# Altium footprint library Hitachi Semiconductor Footprints.PcbLib: 16 footprints
Each footprint in its own frame and in the unit in brackets; x right, y up, seen from the top. Pads: shape width x height; smd on the part's side, far side on the other; paste and mask are expansions set on the pad; w line width, h text height; cw(c..) or ccw(c..) is an arc to the next point about the centre after c.
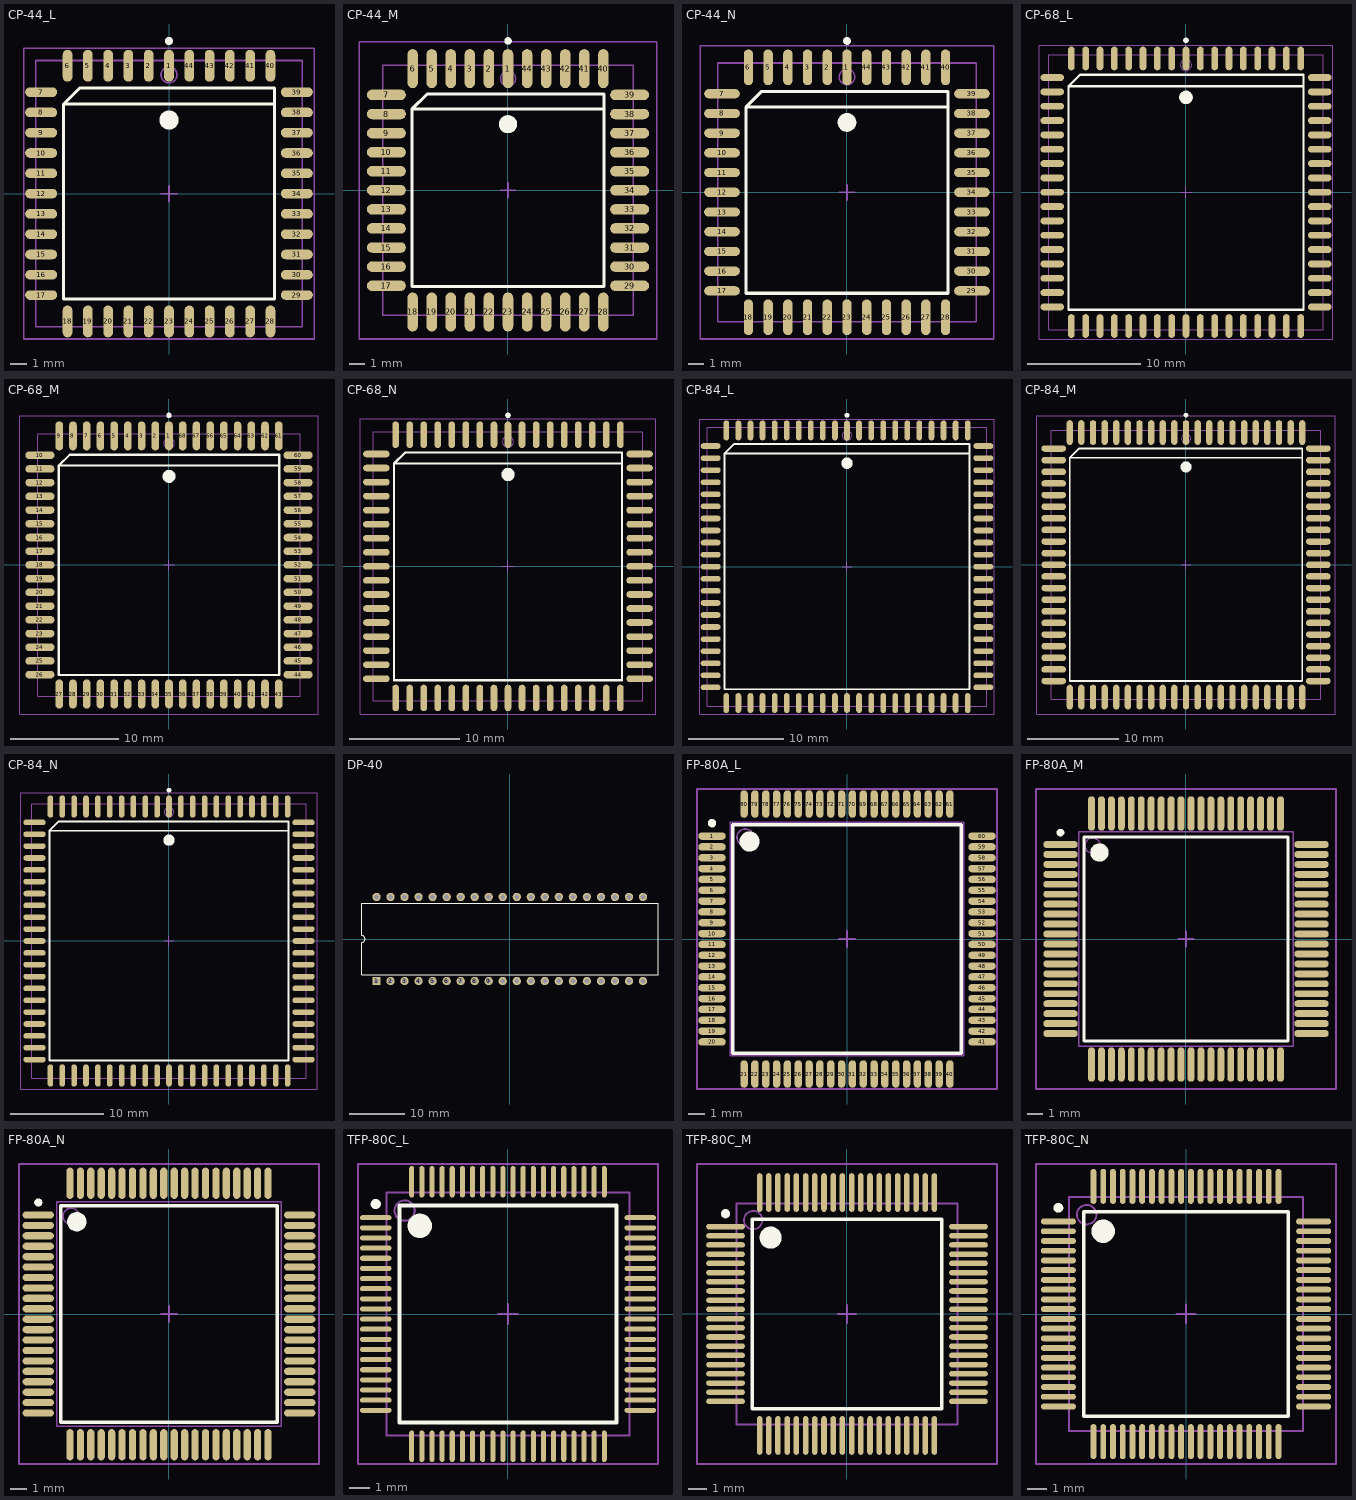
[diagram p0: the footprints below, top view; thin cyan lines are the x and y axes]

## CP-44_L [mm] "44-Pin Leaded Chip Carrier 1.27 mm Pitch, IPC High Density"
height 4.6
pads (44):
  oval 0.6x2 smd: 1(0,8) 2(-1.27,8) 3(-2.54,8) 4(-3.81,8) 5(-5.08,8) 6(-6.35,8) 18(-6.35,-8) 19(-5.08,-8) 20(-3.81,-8) 21(-2.54,-8) 22(-1.27,-8) 23(0,-8) 24(1.27,-8) 25(2.54,-8) 26(3.81,-8) 27(5.08,-8) 28(6.35,-8) 40(6.35,8) 41(5.08,8) 42(3.81,8) 43(2.54,8) 44(1.27,8)
  oval 2x0.6 smd: 7(-8,6.35) 8(-8,5.08) 9(-8,3.81) 10(-8,2.54) 11(-8,1.27) 12(-8,0) 13(-8,-1.27) 14(-8,-2.54) 15(-8,-3.81) 16(-8,-5.08) 17(-8,-6.35) 29(8,-6.35) 30(8,-5.08) 31(8,-3.81) 32(8,-2.54) 33(8,-1.27) 34(8,0) 35(8,1.27) 36(8,2.54) 37(8,3.81) 38(8,5.08) 39(8,6.35)
Top Overlay:
  circle w0.25: c0,9.55 r0.125
  circle w0.6: c0,4.6 r0.3
  lines w0.2: 6.6,5.6 -6.6,5.6 ; -6.6,5.6 -5.6,6.6 6.6,6.6 6.6,-6.6 -6.6,-6.6 -6.6,5.6
Mechanical 13:
  circle w0.1: c0,7.43 r0.5
  lines w0.1: -8.33,-8.33 -8.33,8.33 8.33,8.33 8.33,-8.33 -8.33,-8.33
Mechanical 15:
  lines w0.1: -0.5,0 0.5,0 ; 0,-0.5 0,0.5 ; -9.1,-9.1 -9.1,9.1 9.1,9.1 9.1,-9.1 -9.1,-9.1
3D body: height 4.6, standoff 0, extent -8.33,-8.33 8.33,8.33

## CP-44_M [mm] "44-Pin Leaded Chip Carrier 1.27 mm Pitch, IPC Low Density"
height 4.6
pads (44):
  oval 0.7x2.6 smd: 1(0,8.1) 2(-1.27,8.1) 3(-2.54,8.1) 4(-3.81,8.1) 5(-5.08,8.1) 6(-6.35,8.1) 18(-6.35,-8.1) 19(-5.08,-8.1) 20(-3.81,-8.1) 21(-2.54,-8.1) 22(-1.27,-8.1) 23(0,-8.1) 24(1.27,-8.1) 25(2.54,-8.1) 26(3.81,-8.1) 27(5.08,-8.1) 28(6.35,-8.1) 40(6.35,8.1) 41(5.08,8.1) 42(3.81,8.1) 43(2.54,8.1) 44(1.27,8.1)
  oval 2.6x0.7 smd: 7(-8.1,6.35) 8(-8.1,5.08) 9(-8.1,3.81) 10(-8.1,2.54) 11(-8.1,1.27) 12(-8.1,0) 13(-8.1,-1.27) 14(-8.1,-2.54) 15(-8.1,-3.81) 16(-8.1,-5.08) 17(-8.1,-6.35) 29(8.1,-6.35) 30(8.1,-5.08) 31(8.1,-3.81) 32(8.1,-2.54) 33(8.1,-1.27) 34(8.1,0) 35(8.1,1.27) 36(8.1,2.54) 37(8.1,3.81) 38(8.1,5.08) 39(8.1,6.35)
Top Overlay:
  circle w0.25: c0,9.95 r0.125
  circle w0.6: c0,4.4 r0.3
  lines w0.2: 6.4,5.4 -6.4,5.4 ; -6.4,5.4 -5.4,6.4 6.4,6.4 6.4,-6.4 -6.4,-6.4 -6.4,5.4
Mechanical 13:
  circle w0.1: c0,7.43 r0.5
  lines w0.1: -8.33,-8.33 -8.33,8.33 8.33,8.33 8.33,-8.33 -8.33,-8.33
Mechanical 15:
  lines w0.1: -0.5,0 0.5,0 ; 0,-0.5 0,0.5 ; -9.9,-9.9 -9.9,9.9 9.9,9.9 9.9,-9.9 -9.9,-9.9
3D body: height 4.6, standoff 0, extent -8.33,-8.33 8.33,8.33

## CP-44_N [mm] "44-Pin Leaded Chip Carrier 1.27 mm Pitch, IPC Medium Density"
height 4.6
pads (44):
  oval 0.6x2.3 smd: 1(0,8.05) 2(-1.27,8.05) 3(-2.54,8.05) 4(-3.81,8.05) 5(-5.08,8.05) 6(-6.35,8.05) 18(-6.35,-8.05) 19(-5.08,-8.05) 20(-3.81,-8.05) 21(-2.54,-8.05) 22(-1.27,-8.05) 23(0,-8.05) 24(1.27,-8.05) 25(2.54,-8.05) 26(3.81,-8.05) 27(5.08,-8.05) 28(6.35,-8.05) 40(6.35,8.05) 41(5.08,8.05) 42(3.81,8.05) 43(2.54,8.05) 44(1.27,8.05)
  oval 2.3x0.6 smd: 7(-8.05,6.35) 8(-8.05,5.08) 9(-8.05,3.81) 10(-8.05,2.54) 11(-8.05,1.27) 12(-8.05,0) 13(-8.05,-1.27) 14(-8.05,-2.54) 15(-8.05,-3.81) 16(-8.05,-5.08) 17(-8.05,-6.35) 29(8.05,-6.35) 30(8.05,-5.08) 31(8.05,-3.81) 32(8.05,-2.54) 33(8.05,-1.27) 34(8.05,0) 35(8.05,1.27) 36(8.05,2.54) 37(8.05,3.81) 38(8.05,5.08) 39(8.05,6.35)
Top Overlay:
  circle w0.25: c0,9.75 r0.125
  circle w0.6: c0,4.5 r0.3
  lines w0.2: 6.5,5.5 -6.5,5.5 ; -6.5,5.5 -5.5,6.5 6.5,6.5 6.5,-6.5 -6.5,-6.5 -6.5,5.5
Mechanical 13:
  circle w0.1: c0,7.43 r0.5
  lines w0.1: -8.33,-8.33 -8.33,8.33 8.33,8.33 8.33,-8.33 -8.33,-8.33
Mechanical 15:
  lines w0.1: -0.5,0 0.5,0 ; 0,-0.5 0,0.5 ; -9.45,-9.45 -9.45,9.45 9.45,9.45 9.45,-9.45 -9.45,-9.45
3D body: height 4.6, standoff 0, extent -8.33,-8.33 8.33,8.33

## CP-68_L [mm] "68-Pin Leaded Chip Carrier 1.27 mm Pitch, IPC High Density"
height 4.6
pads (68):
  oval 0.6x2.1 smd: 1(0,11.85) 2(-1.27,11.85) 3(-2.54,11.85) 4(-3.81,11.85) 5(-5.08,11.85) 6(-6.35,11.85) 7(-7.62,11.85) 8(-8.89,11.85) 9(-10.16,11.85) 27(-10.16,-11.85) 28(-8.89,-11.85) 29(-7.62,-11.85) 30(-6.35,-11.85) 31(-5.08,-11.85) 32(-3.81,-11.85) 33(-2.54,-11.85) 34(-1.27,-11.85) 35(0,-11.85) 36(1.27,-11.85) 37(2.54,-11.85) 38(3.81,-11.85) 39(5.08,-11.85) 40(6.35,-11.85) 41(7.62,-11.85) 42(8.89,-11.85) 43(10.16,-11.85) 61(10.16,11.85) 62(8.89,11.85) 63(7.62,11.85) 64(6.35,11.85) 65(5.08,11.85) 66(3.81,11.85) 67(2.54,11.85) 68(1.27,11.85)
  oval 2.1x0.6 smd: 10(-11.85,10.16) 11(-11.85,8.89) 12(-11.85,7.62) 13(-11.85,6.35) 14(-11.85,5.08) 15(-11.85,3.81) 16(-11.85,2.54) 17(-11.85,1.27) 18(-11.85,0) 19(-11.85,-1.27) 20(-11.85,-2.54) 21(-11.85,-3.81) 22(-11.85,-5.08) 23(-11.85,-6.35) 24(-11.85,-7.62) 25(-11.85,-8.89) 26(-11.85,-10.16) 44(11.85,-10.16) 45(11.85,-8.89) 46(11.85,-7.62) 47(11.85,-6.35) 48(11.85,-5.08) 49(11.85,-3.81) 50(11.85,-2.54) 51(11.85,-1.27) 52(11.85,0) 53(11.85,1.27) 54(11.85,2.54) 55(11.85,3.81) 56(11.85,5.08) 57(11.85,6.35) 58(11.85,7.62) 59(11.85,8.89) 60(11.85,10.16)
Top Overlay:
  circle w0.25: c0,13.45 r0.125
  circle w0.6: c0,8.4 r0.3
  lines w0.2: 10.4,9.4 -10.4,9.4 ; -10.4,9.4 -9.4,10.4 10.4,10.4 10.4,-10.4 -10.4,-10.4 -10.4,9.4
Mechanical 13:
  circle w0.1: c0,11.265 r0.5
  lines w0.1: -12.165,-12.165 -12.165,12.165 12.165,12.165 12.165,-12.165 -12.165,-12.165
Mechanical 15:
  lines w0.1: -0.5,0 0.5,0 ; 0,-0.5 0,0.5 ; -13,-13 -13,13 13,13 13,-13 -13,-13
3D body: height 4.6, standoff 0, extent -12.165,-12.165 12.165,12.165

## CP-68_M [mm] "68-Pin Leaded Chip Carrier 1.27 mm Pitch, IPC Low Density"
height 4.6
pads (68):
  oval 0.7x2.7 smd: 1(0,11.95) 2(-1.27,11.95) 3(-2.54,11.95) 4(-3.81,11.95) 5(-5.08,11.95) 6(-6.35,11.95) 7(-7.62,11.95) 8(-8.89,11.95) 9(-10.16,11.95) 27(-10.16,-11.95) 28(-8.89,-11.95) 29(-7.62,-11.95) 30(-6.35,-11.95) 31(-5.08,-11.95) 32(-3.81,-11.95) 33(-2.54,-11.95) 34(-1.27,-11.95) 35(0,-11.95) 36(1.27,-11.95) 37(2.54,-11.95) 38(3.81,-11.95) 39(5.08,-11.95) 40(6.35,-11.95) 41(7.62,-11.95) 42(8.89,-11.95) 43(10.16,-11.95) 61(10.16,11.95) 62(8.89,11.95) 63(7.62,11.95) 64(6.35,11.95) 65(5.08,11.95) 66(3.81,11.95) 67(2.54,11.95) 68(1.27,11.95)
  oval 2.7x0.7 smd: 10(-11.95,10.16) 11(-11.95,8.89) 12(-11.95,7.62) 13(-11.95,6.35) 14(-11.95,5.08) 15(-11.95,3.81) 16(-11.95,2.54) 17(-11.95,1.27) 18(-11.95,0) 19(-11.95,-1.27) 20(-11.95,-2.54) 21(-11.95,-3.81) 22(-11.95,-5.08) 23(-11.95,-6.35) 24(-11.95,-7.62) 25(-11.95,-8.89) 26(-11.95,-10.16) 44(11.95,-10.16) 45(11.95,-8.89) 46(11.95,-7.62) 47(11.95,-6.35) 48(11.95,-5.08) 49(11.95,-3.81) 50(11.95,-2.54) 51(11.95,-1.27) 52(11.95,0) 53(11.95,1.27) 54(11.95,2.54) 55(11.95,3.81) 56(11.95,5.08) 57(11.95,6.35) 58(11.95,7.62) 59(11.95,8.89) 60(11.95,10.16)
Top Overlay:
  circle w0.25: c0,13.85 r0.125
  circle w0.6: c0,8.2 r0.3
  lines w0.2: 10.2,9.2 -10.2,9.2 ; -10.2,9.2 -9.2,10.2 10.2,10.2 10.2,-10.2 -10.2,-10.2 -10.2,9.2
Mechanical 13:
  circle w0.1: c0,11.265 r0.5
  lines w0.1: -12.165,-12.165 -12.165,12.165 12.165,12.165 12.165,-12.165 -12.165,-12.165
Mechanical 15:
  lines w0.1: -0.5,0 0.5,0 ; 0,-0.5 0,0.5 ; -13.8,-13.8 -13.8,13.8 13.8,13.8 13.8,-13.8 -13.8,-13.8
3D body: height 4.6, standoff 0, extent -12.165,-12.165 12.165,12.165

## CP-68_N [mm] "68-Pin Leaded Chip Carrier 1.27 mm Pitch, IPC Medium Density"
height 4.6
pads (68):
  oval 0.6x2.4 smd: 1(0,11.9) 2(-1.27,11.9) 3(-2.54,11.9) 4(-3.81,11.9) 5(-5.08,11.9) 6(-6.35,11.9) 7(-7.62,11.9) 8(-8.89,11.9) 9(-10.16,11.9) 27(-10.16,-11.9) 28(-8.89,-11.9) 29(-7.62,-11.9) 30(-6.35,-11.9) 31(-5.08,-11.9) 32(-3.81,-11.9) 33(-2.54,-11.9) 34(-1.27,-11.9) 35(0,-11.9) 36(1.27,-11.9) 37(2.54,-11.9) 38(3.81,-11.9) 39(5.08,-11.9) 40(6.35,-11.9) 41(7.62,-11.9) 42(8.89,-11.9) 43(10.16,-11.9) 61(10.16,11.9) 62(8.89,11.9) 63(7.62,11.9) 64(6.35,11.9) 65(5.08,11.9) 66(3.81,11.9) 67(2.54,11.9) 68(1.27,11.9)
  oval 2.4x0.6 smd: 10(-11.9,10.16) 11(-11.9,8.89) 12(-11.9,7.62) 13(-11.9,6.35) 14(-11.9,5.08) 15(-11.9,3.81) 16(-11.9,2.54) 17(-11.9,1.27) 18(-11.9,0) 19(-11.9,-1.27) 20(-11.9,-2.54) 21(-11.9,-3.81) 22(-11.9,-5.08) 23(-11.9,-6.35) 24(-11.9,-7.62) 25(-11.9,-8.89) 26(-11.9,-10.16) 44(11.9,-10.16) 45(11.9,-8.89) 46(11.9,-7.62) 47(11.9,-6.35) 48(11.9,-5.08) 49(11.9,-3.81) 50(11.9,-2.54) 51(11.9,-1.27) 52(11.9,0) 53(11.9,1.27) 54(11.9,2.54) 55(11.9,3.81) 56(11.9,5.08) 57(11.9,6.35) 58(11.9,7.62) 59(11.9,8.89) 60(11.9,10.16)
Top Overlay:
  circle w0.25: c0,13.65 r0.125
  circle w0.6: c0,8.3 r0.3
  lines w0.2: 10.3,9.3 -10.3,9.3 ; -10.3,9.3 -9.3,10.3 10.3,10.3 10.3,-10.3 -10.3,-10.3 -10.3,9.3
Mechanical 13:
  circle w0.1: c0,11.265 r0.5
  lines w0.1: -12.165,-12.165 -12.165,12.165 12.165,12.165 12.165,-12.165 -12.165,-12.165
Mechanical 15:
  lines w0.1: -0.5,0 0.5,0 ; 0,-0.5 0,0.5 ; -13.35,-13.35 -13.35,13.35 13.35,13.35 13.35,-13.35 -13.35,-13.35
3D body: height 4.6, standoff 0, extent -12.165,-12.165 12.165,12.165

## CP-84_L [mm] "84-Pin Leaded Chip Carrier 1.27 mm Pitch, IPC High Density"
height 4.6
pads (84):
  oval 0.6x2.1 smd: 1(0,14.35) 2(-1.27,14.35) 3(-2.54,14.35) 4(-3.81,14.35) 5(-5.08,14.35) 6(-6.35,14.35) 7(-7.62,14.35) 8(-8.89,14.35) 9(-10.16,14.35) 10(-11.43,14.35) 11(-12.7,14.35) 33(-12.7,-14.35) 34(-11.43,-14.35) 35(-10.16,-14.35) 36(-8.89,-14.35) 37(-7.62,-14.35) 38(-6.35,-14.35) 39(-5.08,-14.35) 40(-3.81,-14.35) 41(-2.54,-14.35) 42(-1.27,-14.35) 43(0,-14.35) 44(1.27,-14.35) 45(2.54,-14.35) 46(3.81,-14.35) 47(5.08,-14.35) 48(6.35,-14.35) 49(7.62,-14.35) 50(8.89,-14.35) 51(10.16,-14.35) 52(11.43,-14.35) 53(12.7,-14.35) 75(12.7,14.35) 76(11.43,14.35) 77(10.16,14.35) 78(8.89,14.35) 79(7.62,14.35) 80(6.35,14.35) 81(5.08,14.35) 82(3.81,14.35) 83(2.54,14.35) 84(1.27,14.35)
  oval 2.1x0.6 smd: 12(-14.35,12.7) 13(-14.35,11.43) 14(-14.35,10.16) 15(-14.35,8.89) 16(-14.35,7.62) 17(-14.35,6.35) 18(-14.35,5.08) 19(-14.35,3.81) 20(-14.35,2.54) 21(-14.35,1.27) 22(-14.35,0) 23(-14.35,-1.27) 24(-14.35,-2.54) 25(-14.35,-3.81) 26(-14.35,-5.08) 27(-14.35,-6.35) 28(-14.35,-7.62) 29(-14.35,-8.89) 30(-14.35,-10.16) 31(-14.35,-11.43) 32(-14.35,-12.7) 54(14.35,-12.7) 55(14.35,-11.43) 56(14.35,-10.16) 57(14.35,-8.89) 58(14.35,-7.62) 59(14.35,-6.35) 60(14.35,-5.08) 61(14.35,-3.81) 62(14.35,-2.54) 63(14.35,-1.27) 64(14.35,0) 65(14.35,1.27) 66(14.35,2.54) 67(14.35,3.81) 68(14.35,5.08) 69(14.35,6.35) 70(14.35,7.62) 71(14.35,8.89) 72(14.35,10.16) 73(14.35,11.43) 74(14.35,12.7)
Top Overlay:
  circle w0.25: c0,15.95 r0.125
  circle w0.6: c0,10.9 r0.3
  lines w0.2: 12.9,11.9 -12.9,11.9 ; -12.9,11.9 -11.9,12.9 12.9,12.9 12.9,-12.9 -12.9,-12.9 -12.9,11.9
Mechanical 13:
  circle w0.1: c0,13.805 r0.5
  lines w0.1: -14.705,-14.705 -14.705,14.705 14.705,14.705 14.705,-14.705 -14.705,-14.705
Mechanical 15:
  lines w0.1: -0.5,0 0.5,0 ; 0,-0.5 0,0.5 ; -15.5,-15.5 -15.5,15.5 15.5,15.5 15.5,-15.5 -15.5,-15.5
3D body: height 4.6, standoff 0, extent -14.705,-14.705 14.705,14.705

## CP-84_M [mm] "84-Pin Leaded Chip Carrier 1.27 mm Pitch, IPC Low Density"
height 4.6
pads (84):
  oval 0.7x2.7 smd: 1(0,14.45) 2(-1.27,14.45) 3(-2.54,14.45) 4(-3.81,14.45) 5(-5.08,14.45) 6(-6.35,14.45) 7(-7.62,14.45) 8(-8.89,14.45) 9(-10.16,14.45) 10(-11.43,14.45) 11(-12.7,14.45) 33(-12.7,-14.45) 34(-11.43,-14.45) 35(-10.16,-14.45) 36(-8.89,-14.45) 37(-7.62,-14.45) 38(-6.35,-14.45) 39(-5.08,-14.45) 40(-3.81,-14.45) 41(-2.54,-14.45) 42(-1.27,-14.45) 43(0,-14.45) 44(1.27,-14.45) 45(2.54,-14.45) 46(3.81,-14.45) 47(5.08,-14.45) 48(6.35,-14.45) 49(7.62,-14.45) 50(8.89,-14.45) 51(10.16,-14.45) 52(11.43,-14.45) 53(12.7,-14.45) 75(12.7,14.45) 76(11.43,14.45) 77(10.16,14.45) 78(8.89,14.45) 79(7.62,14.45) 80(6.35,14.45) 81(5.08,14.45) 82(3.81,14.45) 83(2.54,14.45) 84(1.27,14.45)
  oval 2.7x0.7 smd: 12(-14.45,12.7) 13(-14.45,11.43) 14(-14.45,10.16) 15(-14.45,8.89) 16(-14.45,7.62) 17(-14.45,6.35) 18(-14.45,5.08) 19(-14.45,3.81) 20(-14.45,2.54) 21(-14.45,1.27) 22(-14.45,0) 23(-14.45,-1.27) 24(-14.45,-2.54) 25(-14.45,-3.81) 26(-14.45,-5.08) 27(-14.45,-6.35) 28(-14.45,-7.62) 29(-14.45,-8.89) 30(-14.45,-10.16) 31(-14.45,-11.43) 32(-14.45,-12.7) 54(14.45,-12.7) 55(14.45,-11.43) 56(14.45,-10.16) 57(14.45,-8.89) 58(14.45,-7.62) 59(14.45,-6.35) 60(14.45,-5.08) 61(14.45,-3.81) 62(14.45,-2.54) 63(14.45,-1.27) 64(14.45,0) 65(14.45,1.27) 66(14.45,2.54) 67(14.45,3.81) 68(14.45,5.08) 69(14.45,6.35) 70(14.45,7.62) 71(14.45,8.89) 72(14.45,10.16) 73(14.45,11.43) 74(14.45,12.7)
Top Overlay:
  circle w0.25: c0,16.35 r0.125
  circle w0.6: c0,10.7 r0.3
  lines w0.2: 12.7,11.7 -12.7,11.7 ; -12.7,11.7 -11.7,12.7 12.7,12.7 12.7,-12.7 -12.7,-12.7 -12.7,11.7
Mechanical 13:
  circle w0.1: c0,13.805 r0.5
  lines w0.1: -14.705,-14.705 -14.705,14.705 14.705,14.705 14.705,-14.705 -14.705,-14.705
Mechanical 15:
  lines w0.1: -0.5,0 0.5,0 ; 0,-0.5 0,0.5 ; -16.3,-16.3 -16.3,16.3 16.3,16.3 16.3,-16.3 -16.3,-16.3
3D body: height 4.6, standoff 0, extent -14.705,-14.705 14.705,14.705

## CP-84_N [mm] "84-Pin Leaded Chip Carrier 1.27 mm Pitch, IPC Medium Density"
height 4.6
pads (84):
  oval 0.6x2.4 smd: 1(0,14.4) 2(-1.27,14.4) 3(-2.54,14.4) 4(-3.81,14.4) 5(-5.08,14.4) 6(-6.35,14.4) 7(-7.62,14.4) 8(-8.89,14.4) 9(-10.16,14.4) 10(-11.43,14.4) 11(-12.7,14.4) 33(-12.7,-14.4) 34(-11.43,-14.4) 35(-10.16,-14.4) 36(-8.89,-14.4) 37(-7.62,-14.4) 38(-6.35,-14.4) 39(-5.08,-14.4) 40(-3.81,-14.4) 41(-2.54,-14.4) 42(-1.27,-14.4) 43(0,-14.4) 44(1.27,-14.4) 45(2.54,-14.4) 46(3.81,-14.4) 47(5.08,-14.4) 48(6.35,-14.4) 49(7.62,-14.4) 50(8.89,-14.4) 51(10.16,-14.4) 52(11.43,-14.4) 53(12.7,-14.4) 75(12.7,14.4) 76(11.43,14.4) 77(10.16,14.4) 78(8.89,14.4) 79(7.62,14.4) 80(6.35,14.4) 81(5.08,14.4) 82(3.81,14.4) 83(2.54,14.4) 84(1.27,14.4)
  oval 2.4x0.6 smd: 12(-14.4,12.7) 13(-14.4,11.43) 14(-14.4,10.16) 15(-14.4,8.89) 16(-14.4,7.62) 17(-14.4,6.35) 18(-14.4,5.08) 19(-14.4,3.81) 20(-14.4,2.54) 21(-14.4,1.27) 22(-14.4,0) 23(-14.4,-1.27) 24(-14.4,-2.54) 25(-14.4,-3.81) 26(-14.4,-5.08) 27(-14.4,-6.35) 28(-14.4,-7.62) 29(-14.4,-8.89) 30(-14.4,-10.16) 31(-14.4,-11.43) 32(-14.4,-12.7) 54(14.4,-12.7) 55(14.4,-11.43) 56(14.4,-10.16) 57(14.4,-8.89) 58(14.4,-7.62) 59(14.4,-6.35) 60(14.4,-5.08) 61(14.4,-3.81) 62(14.4,-2.54) 63(14.4,-1.27) 64(14.4,0) 65(14.4,1.27) 66(14.4,2.54) 67(14.4,3.81) 68(14.4,5.08) 69(14.4,6.35) 70(14.4,7.62) 71(14.4,8.89) 72(14.4,10.16) 73(14.4,11.43) 74(14.4,12.7)
Top Overlay:
  circle w0.25: c0,16.15 r0.125
  circle w0.6: c0,10.8 r0.3
  lines w0.2: 12.8,11.8 -12.8,11.8 ; -12.8,11.8 -11.8,12.8 12.8,12.8 12.8,-12.8 -12.8,-12.8 -12.8,11.8
Mechanical 13:
  circle w0.1: c0,13.805 r0.5
  lines w0.1: -14.705,-14.705 -14.705,14.705 14.705,14.705 14.705,-14.705 -14.705,-14.705
Mechanical 15:
  lines w0.1: -0.5,0 0.5,0 ; 0,-0.5 0,0.5 ; -15.85,-15.85 -15.85,15.85 15.85,15.85 15.85,-15.85 -15.85,-15.85
3D body: height 4.6, standoff 0, extent -14.705,-14.705 14.705,14.705

## DP-40 [mm] "DIP; 40 Leads; Row Spacing 15.24 mm; Pitch 2.54 mm"
height 5.08
pads (40):
  rect 1.5x1.5 hole 0.9: 1(-24.13,-7.62)
  round 1.5 hole 0.9: 2(-21.59,-7.62) 3(-19.05,-7.62) 4(-16.51,-7.62) 5(-13.97,-7.62) 6(-11.43,-7.62) 7(-8.89,-7.62) 8(-6.35,-7.62) 9(-3.81,-7.62) 10(-1.27,-7.62) 11(1.27,-7.62) 12(3.81,-7.62) 13(6.35,-7.62) 14(8.89,-7.62) 15(11.43,-7.62) 16(13.97,-7.62) 17(16.51,-7.62) 18(19.05,-7.62) 19(21.59,-7.62) 20(24.13,-7.62) 21(24.13,7.62) 22(21.59,7.62) 23(19.05,7.62) 24(16.51,7.62) 25(13.97,7.62) 26(11.43,7.62) 27(8.89,7.62) 28(6.35,7.62) 29(3.81,7.62) 30(1.27,7.62) 31(-1.27,7.62) 32(-3.81,7.62) 33(-6.35,7.62) 34(-8.89,7.62) 35(-11.43,7.62) 36(-13.97,7.62) 37(-16.51,7.62) 38(-19.05,7.62) 39(-21.59,7.62) 40(-24.13,7.62)
Top Overlay:
  lines w0.2: -26.85,-6.45 26.85,-6.45 26.85,6.45 -26.85,6.45 -26.85,0.635 cw(c-26.85,0) -26.85,-0.635 -26.85,-6.45

## FP-80A_L [mm] "80-Pin Quad Flat Pack 0.65 mm Pitch, IPC High Density"
height 3.05
pads (80):
  oval 1.65x0.45 smd: 1(-8.1,6.175) 2(-8.1,5.525) 3(-8.1,4.875) 4(-8.1,4.225) 5(-8.1,3.575) 6(-8.1,2.925) 7(-8.1,2.275) 8(-8.1,1.625) 9(-8.1,0.975) 10(-8.1,0.325) 11(-8.1,-0.325) 12(-8.1,-0.975) 13(-8.1,-1.625) 14(-8.1,-2.275) 15(-8.1,-2.925) 16(-8.1,-3.575) 17(-8.1,-4.225) 18(-8.1,-4.875) 19(-8.1,-5.525) 20(-8.1,-6.175) 41(8.1,-6.175) 42(8.1,-5.525) 43(8.1,-4.875) 44(8.1,-4.225) 45(8.1,-3.575) 46(8.1,-2.925) 47(8.1,-2.275) 48(8.1,-1.625) 49(8.1,-0.975) 50(8.1,-0.325) 51(8.1,0.325) 52(8.1,0.975) 53(8.1,1.625) 54(8.1,2.275) 55(8.1,2.925) 56(8.1,3.575) 57(8.1,4.225) 58(8.1,4.875) 59(8.1,5.525) 60(8.1,6.175)
  oval 0.45x1.65 smd: 21(-6.175,-8.1) 22(-5.525,-8.1) 23(-4.875,-8.1) 24(-4.225,-8.1) 25(-3.575,-8.1) 26(-2.925,-8.1) 27(-2.275,-8.1) 28(-1.625,-8.1) 29(-0.975,-8.1) 30(-0.325,-8.1) 31(0.325,-8.1) 32(0.975,-8.1) 33(1.625,-8.1) 34(2.275,-8.1) 35(2.925,-8.1) 36(3.575,-8.1) 37(4.225,-8.1) 38(4.875,-8.1) 39(5.525,-8.1) 40(6.175,-8.1) 61(6.175,8.1) 62(5.525,8.1) 63(4.875,8.1) 64(4.225,8.1) 65(3.575,8.1) 66(2.925,8.1) 67(2.275,8.1) 68(1.625,8.1) 69(0.975,8.1) 70(0.325,8.1) 71(-0.325,8.1) 72(-0.975,8.1) 73(-1.625,8.1) 74(-2.275,8.1) 75(-2.925,8.1) 76(-3.575,8.1) 77(-4.225,8.1) 78(-4.875,8.1) 79(-5.525,8.1) 80(-6.175,8.1)
Top Overlay:
  circle w0.6: c-5.85,5.85 r0.3
  circle w0.25: c-8.1,6.95 r0.125
  lines w0.2: -6.85,-6.85 6.85,-6.85 6.85,6.85 -6.85,6.85 -6.85,-6.85
Mechanical 13:
  circle w0.1: c-6.1,6.1 r0.5
  lines w0.1: -7,-7 7,-7 7,7 -7,7 -7,-7
Mechanical 15:
  lines w0.1: -0.5,0 0.5,0 ; 0,-0.5 0,0.5 ; -9,-9 9,-9 9,9 -9,9 -9,-9
3D body: height 3.05, standoff 0, extent -7,-7 7,7

## FP-80A_M [mm] "80-Pin Quad Flat Pack 0.65 mm Pitch, IPC Low Density"
height 3.05
pads (80):
  oval 2.25x0.45 smd: 1(-8.2,6.175) 2(-8.2,5.525) 3(-8.2,4.875) 4(-8.2,4.225) 5(-8.2,3.575) 6(-8.2,2.925) 7(-8.2,2.275) 8(-8.2,1.625) 9(-8.2,0.975) 10(-8.2,0.325) 11(-8.2,-0.325) 12(-8.2,-0.975) 13(-8.2,-1.625) 14(-8.2,-2.275) 15(-8.2,-2.925) 16(-8.2,-3.575) 17(-8.2,-4.225) 18(-8.2,-4.875) 19(-8.2,-5.525) 20(-8.2,-6.175) 41(8.2,-6.175) 42(8.2,-5.525) 43(8.2,-4.875) 44(8.2,-4.225) 45(8.2,-3.575) 46(8.2,-2.925) 47(8.2,-2.275) 48(8.2,-1.625) 49(8.2,-0.975) 50(8.2,-0.325) 51(8.2,0.325) 52(8.2,0.975) 53(8.2,1.625) 54(8.2,2.275) 55(8.2,2.925) 56(8.2,3.575) 57(8.2,4.225) 58(8.2,4.875) 59(8.2,5.525) 60(8.2,6.175)
  oval 0.45x2.25 smd: 21(-6.175,-8.2) 22(-5.525,-8.2) 23(-4.875,-8.2) 24(-4.225,-8.2) 25(-3.575,-8.2) 26(-2.925,-8.2) 27(-2.275,-8.2) 28(-1.625,-8.2) 29(-0.975,-8.2) 30(-0.325,-8.2) 31(0.325,-8.2) 32(0.975,-8.2) 33(1.625,-8.2) 34(2.275,-8.2) 35(2.925,-8.2) 36(3.575,-8.2) 37(4.225,-8.2) 38(4.875,-8.2) 39(5.525,-8.2) 40(6.175,-8.2) 61(6.175,8.2) 62(5.525,8.2) 63(4.875,8.2) 64(4.225,8.2) 65(3.575,8.2) 66(2.925,8.2) 67(2.275,8.2) 68(1.625,8.2) 69(0.975,8.2) 70(0.325,8.2) 71(-0.325,8.2) 72(-0.975,8.2) 73(-1.625,8.2) 74(-2.275,8.2) 75(-2.925,8.2) 76(-3.575,8.2) 77(-4.225,8.2) 78(-4.875,8.2) 79(-5.525,8.2) 80(-6.175,8.2)
Top Overlay:
  circle w0.6: c-5.65,5.65 r0.3
  circle w0.25: c-8.2,6.95 r0.125
  lines w0.2: -6.65,-6.65 6.65,-6.65 6.65,6.65 -6.65,6.65 -6.65,-6.65
Mechanical 13:
  circle w0.1: c-6.1,6.1 r0.5
  lines w0.1: -7,-7 7,-7 7,7 -7,7 -7,-7
Mechanical 15:
  lines w0.1: -0.5,0 0.5,0 ; 0,-0.5 0,0.5 ; -9.8,-9.8 9.8,-9.8 9.8,9.8 -9.8,9.8 -9.8,-9.8
3D body: height 3.05, standoff 0, extent -7,-7 7,7

## FP-80A_N [mm] "80-Pin Quad Flat Pack 0.65 mm Pitch, IPC Medium Density"
height 3.05
pads (80):
  oval 1.95x0.45 smd: 1(-8.15,6.175) 2(-8.15,5.525) 3(-8.15,4.875) 4(-8.15,4.225) 5(-8.15,3.575) 6(-8.15,2.925) 7(-8.15,2.275) 8(-8.15,1.625) 9(-8.15,0.975) 10(-8.15,0.325) 11(-8.15,-0.325) 12(-8.15,-0.975) 13(-8.15,-1.625) 14(-8.15,-2.275) 15(-8.15,-2.925) 16(-8.15,-3.575) 17(-8.15,-4.225) 18(-8.15,-4.875) 19(-8.15,-5.525) 20(-8.15,-6.175) 41(8.15,-6.175) 42(8.15,-5.525) 43(8.15,-4.875) 44(8.15,-4.225) 45(8.15,-3.575) 46(8.15,-2.925) 47(8.15,-2.275) 48(8.15,-1.625) 49(8.15,-0.975) 50(8.15,-0.325) 51(8.15,0.325) 52(8.15,0.975) 53(8.15,1.625) 54(8.15,2.275) 55(8.15,2.925) 56(8.15,3.575) 57(8.15,4.225) 58(8.15,4.875) 59(8.15,5.525) 60(8.15,6.175)
  oval 0.45x1.95 smd: 21(-6.175,-8.15) 22(-5.525,-8.15) 23(-4.875,-8.15) 24(-4.225,-8.15) 25(-3.575,-8.15) 26(-2.925,-8.15) 27(-2.275,-8.15) 28(-1.625,-8.15) 29(-0.975,-8.15) 30(-0.325,-8.15) 31(0.325,-8.15) 32(0.975,-8.15) 33(1.625,-8.15) 34(2.275,-8.15) 35(2.925,-8.15) 36(3.575,-8.15) 37(4.225,-8.15) 38(4.875,-8.15) 39(5.525,-8.15) 40(6.175,-8.15) 61(6.175,8.15) 62(5.525,8.15) 63(4.875,8.15) 64(4.225,8.15) 65(3.575,8.15) 66(2.925,8.15) 67(2.275,8.15) 68(1.625,8.15) 69(0.975,8.15) 70(0.325,8.15) 71(-0.325,8.15) 72(-0.975,8.15) 73(-1.625,8.15) 74(-2.275,8.15) 75(-2.925,8.15) 76(-3.575,8.15) 77(-4.225,8.15) 78(-4.875,8.15) 79(-5.525,8.15) 80(-6.175,8.15)
Top Overlay:
  circle w0.25: c-8.15,6.95 r0.125
  circle w0.6: c-5.75,5.75 r0.3
  lines w0.2: -6.75,-6.75 -6.75,6.75 6.75,6.75 6.75,-6.75 -6.75,-6.75
Mechanical 13:
  circle w0.1: c-6.1,6.1 r0.5
  lines w0.1: -7,-7 -7,7 7,7 7,-7 -7,-7
Mechanical 15:
  lines w0.1: -0.5,0 0.5,0 ; 0,-0.5 0,0.5 ; -9.35,-9.35 -9.35,9.35 9.35,9.35 9.35,-9.35 -9.35,-9.35
3D body: height 3.05, standoff 0, extent -7,-7 7,7

## TFP-80C_L [mm] "80-Pin Thin Quad Flat Pack 0.5 mm Pitch, IPC High Density"
height 1.2
pads (80):
  oval 1.55x0.25 smd: 1(-6.525,4.75) 2(-6.525,4.25) 3(-6.525,3.75) 4(-6.525,3.25) 5(-6.525,2.75) 6(-6.525,2.25) 7(-6.525,1.75) 8(-6.525,1.25) 9(-6.525,0.75) 10(-6.525,0.25) 11(-6.525,-0.25) 12(-6.525,-0.75) 13(-6.525,-1.25) 14(-6.525,-1.75) 15(-6.525,-2.25) 16(-6.525,-2.75) 17(-6.525,-3.25) 18(-6.525,-3.75) 19(-6.525,-4.25) 20(-6.525,-4.75) 41(6.525,-4.75) 42(6.525,-4.25) 43(6.525,-3.75) 44(6.525,-3.25) 45(6.525,-2.75) 46(6.525,-2.25) 47(6.525,-1.75) 48(6.525,-1.25) 49(6.525,-0.75) 50(6.525,-0.25) 51(6.525,0.25) 52(6.525,0.75) 53(6.525,1.25) 54(6.525,1.75) 55(6.525,2.25) 56(6.525,2.75) 57(6.525,3.25) 58(6.525,3.75) 59(6.525,4.25) 60(6.525,4.75)
  oval 0.25x1.55 smd: 21(-4.75,-6.525) 22(-4.25,-6.525) 23(-3.75,-6.525) 24(-3.25,-6.525) 25(-2.75,-6.525) 26(-2.25,-6.525) 27(-1.75,-6.525) 28(-1.25,-6.525) 29(-0.75,-6.525) 30(-0.25,-6.525) 31(0.25,-6.525) 32(0.75,-6.525) 33(1.25,-6.525) 34(1.75,-6.525) 35(2.25,-6.525) 36(2.75,-6.525) 37(3.25,-6.525) 38(3.75,-6.525) 39(4.25,-6.525) 40(4.75,-6.525) 61(4.75,6.525) 62(4.25,6.525) 63(3.75,6.525) 64(3.25,6.525) 65(2.75,6.525) 66(2.25,6.525) 67(1.75,6.525) 68(1.25,6.525) 69(0.75,6.525) 70(0.25,6.525) 71(-0.25,6.525) 72(-0.75,6.525) 73(-1.25,6.525) 74(-1.75,6.525) 75(-2.25,6.525) 76(-2.75,6.525) 77(-3.25,6.525) 78(-3.75,6.525) 79(-4.25,6.525) 80(-4.75,6.525)
Top Overlay:
  circle w0.6: c-4.35,4.35 r0.3
  circle w0.25: c-6.525,5.425 r0.125
  lines w0.2: -5.35,-5.35 5.35,-5.35 5.35,5.35 -5.35,5.35 -5.35,-5.35
Mechanical 13:
  circle w0.1: c-5.1,5.1 r0.5
  lines w0.1: -6,-6 6,-6 6,6 -6,6 -6,-6
Mechanical 15:
  lines w0.1: -0.5,0 0.5,0 ; 0,-0.5 0,0.5 ; -7.4,-7.4 7.4,-7.4 7.4,7.4 -7.4,7.4 -7.4,-7.4
3D body: height 1.2, standoff 0, extent -6,-6 6,6

## TFP-80C_M [mm] "80-Pin Thin Quad Flat Pack 0.5 mm Pitch, IPC Low Density"
height 1.2
pads (80):
  oval 2.1x0.3 smd: 1(-6.6,4.75) 2(-6.6,4.25) 3(-6.6,3.75) 4(-6.6,3.25) 5(-6.6,2.75) 6(-6.6,2.25) 7(-6.6,1.75) 8(-6.6,1.25) 9(-6.6,0.75) 10(-6.6,0.25) 11(-6.6,-0.25) 12(-6.6,-0.75) 13(-6.6,-1.25) 14(-6.6,-1.75) 15(-6.6,-2.25) 16(-6.6,-2.75) 17(-6.6,-3.25) 18(-6.6,-3.75) 19(-6.6,-4.25) 20(-6.6,-4.75) 41(6.6,-4.75) 42(6.6,-4.25) 43(6.6,-3.75) 44(6.6,-3.25) 45(6.6,-2.75) 46(6.6,-2.25) 47(6.6,-1.75) 48(6.6,-1.25) 49(6.6,-0.75) 50(6.6,-0.25) 51(6.6,0.25) 52(6.6,0.75) 53(6.6,1.25) 54(6.6,1.75) 55(6.6,2.25) 56(6.6,2.75) 57(6.6,3.25) 58(6.6,3.75) 59(6.6,4.25) 60(6.6,4.75)
  oval 0.3x2.1 smd: 21(-4.75,-6.6) 22(-4.25,-6.6) 23(-3.75,-6.6) 24(-3.25,-6.6) 25(-2.75,-6.6) 26(-2.25,-6.6) 27(-1.75,-6.6) 28(-1.25,-6.6) 29(-0.75,-6.6) 30(-0.25,-6.6) 31(0.25,-6.6) 32(0.75,-6.6) 33(1.25,-6.6) 34(1.75,-6.6) 35(2.25,-6.6) 36(2.75,-6.6) 37(3.25,-6.6) 38(3.75,-6.6) 39(4.25,-6.6) 40(4.75,-6.6) 61(4.75,6.6) 62(4.25,6.6) 63(3.75,6.6) 64(3.25,6.6) 65(2.75,6.6) 66(2.25,6.6) 67(1.75,6.6) 68(1.25,6.6) 69(0.75,6.6) 70(0.25,6.6) 71(-0.25,6.6) 72(-0.75,6.6) 73(-1.25,6.6) 74(-1.75,6.6) 75(-2.25,6.6) 76(-2.75,6.6) 77(-3.25,6.6) 78(-3.75,6.6) 79(-4.25,6.6) 80(-4.75,6.6)
Top Overlay:
  circle w0.6: c-4.15,4.15 r0.3
  circle w0.25: c-6.6,5.45 r0.125
  lines w0.2: -5.15,-5.15 5.15,-5.15 5.15,5.15 -5.15,5.15 -5.15,-5.15
Mechanical 13:
  circle w0.1: c-5.1,5.1 r0.5
  lines w0.1: -6,-6 6,-6 6,6 -6,6 -6,-6
Mechanical 15:
  lines w0.1: -0.5,0 0.5,0 ; 0,-0.5 0,0.5 ; -8.15,-8.15 8.15,-8.15 8.15,8.15 -8.15,8.15 -8.15,-8.15
3D body: height 1.2, standoff 0, extent -6,-6 6,6

## TFP-80C_N [mm] "80-Pin Thin Quad Flat Pack 0.5 mm Pitch, IPC Medium Density"
height 1.2
pads (80):
  oval 1.8x0.3 smd: 1(-6.55,4.75) 2(-6.55,4.25) 3(-6.55,3.75) 4(-6.55,3.25) 5(-6.55,2.75) 6(-6.55,2.25) 7(-6.55,1.75) 8(-6.55,1.25) 9(-6.55,0.75) 10(-6.55,0.25) 11(-6.55,-0.25) 12(-6.55,-0.75) 13(-6.55,-1.25) 14(-6.55,-1.75) 15(-6.55,-2.25) 16(-6.55,-2.75) 17(-6.55,-3.25) 18(-6.55,-3.75) 19(-6.55,-4.25) 20(-6.55,-4.75) 41(6.55,-4.75) 42(6.55,-4.25) 43(6.55,-3.75) 44(6.55,-3.25) 45(6.55,-2.75) 46(6.55,-2.25) 47(6.55,-1.75) 48(6.55,-1.25) 49(6.55,-0.75) 50(6.55,-0.25) 51(6.55,0.25) 52(6.55,0.75) 53(6.55,1.25) 54(6.55,1.75) 55(6.55,2.25) 56(6.55,2.75) 57(6.55,3.25) 58(6.55,3.75) 59(6.55,4.25) 60(6.55,4.75)
  oval 0.3x1.8 smd: 21(-4.75,-6.55) 22(-4.25,-6.55) 23(-3.75,-6.55) 24(-3.25,-6.55) 25(-2.75,-6.55) 26(-2.25,-6.55) 27(-1.75,-6.55) 28(-1.25,-6.55) 29(-0.75,-6.55) 30(-0.25,-6.55) 31(0.25,-6.55) 32(0.75,-6.55) 33(1.25,-6.55) 34(1.75,-6.55) 35(2.25,-6.55) 36(2.75,-6.55) 37(3.25,-6.55) 38(3.75,-6.55) 39(4.25,-6.55) 40(4.75,-6.55) 61(4.75,6.55) 62(4.25,6.55) 63(3.75,6.55) 64(3.25,6.55) 65(2.75,6.55) 66(2.25,6.55) 67(1.75,6.55) 68(1.25,6.55) 69(0.75,6.55) 70(0.25,6.55) 71(-0.25,6.55) 72(-0.75,6.55) 73(-1.25,6.55) 74(-1.75,6.55) 75(-2.25,6.55) 76(-2.75,6.55) 77(-3.25,6.55) 78(-3.75,6.55) 79(-4.25,6.55) 80(-4.75,6.55)
Top Overlay:
  circle w0.6: c-4.25,4.25 r0.3
  circle w0.25: c-6.55,5.45 r0.125
  lines w0.2: -5.25,-5.25 5.25,-5.25 5.25,5.25 -5.25,5.25 -5.25,-5.25
Mechanical 13:
  circle w0.1: c-5.1,5.1 r0.5
  lines w0.1: -6,-6 6,-6 6,6 -6,6 -6,-6
Mechanical 15:
  lines w0.1: -0.5,0 0.5,0 ; 0,-0.5 0,0.5 ; -7.7,-7.7 7.7,-7.7 7.7,7.7 -7.7,7.7 -7.7,-7.7
3D body: height 1.2, standoff 0, extent -6,-6 6,6